# Altium schematic symbol library ADG904.SchLib: 1 symbol
Pins are listed as number, name and electrical type; pins without a type are passive.

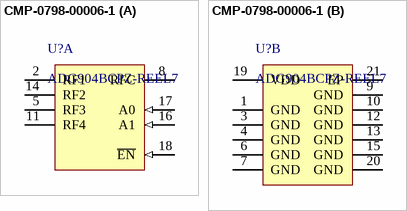
[diagram p0: symbol CMP-0798-00006-1]

## CMP-0798-00006-1
designator U?, comment ADG904BCPZ-REEL7
Wideband 2.5 GHz, 37 dB Isolation at 1 GHz, CMOS 1.65 to 2.75 V, 4:1 Mux / SP4T, -40 to 85 degC, 20-pin QFN (CP-20-1), Reel; Manufacturer: Analog Devices; t transition (s): 12n; Bandwidth (Hz): 2.5G; Supply V Guar Performance: Single_(+2.5V); ComponentLink2URL: http://www.analog.com/static/imported-files/data_sheets/ADG904_904R.pdf; DatasheetVersion: Rev. B; ComponentLink3URL: http://www.analog.com/static/imported-files/packages/PKG_PDF/LFCSP(CP)/CP_20_6.pdf; PackageDescription: 20-Pin Lead Frame Chip Scale Package, Body 4 x 4 mm, Pitch 0.5 mm; ComponentLink1URL: http://www.analog.com/en/index.html; ComponentLink3Description: Package Specification; ComponentLink2Description: Datasheet; Mounting Technology: Surface Mount; ComponentLink1Description: Manufacturer URL; Code_JEDEC: MO-220; PackageVersion: 061708-A, 07/2011; PartNumber: ADG904BCPZ-REEL7; PackageReference: CP-20-6; Packing: Reel
footprint ADI-CP-20-6_N (QFN, 20-Leads, Body 4x4mm, Pitch 0.5mm, Thermal Pad 2.15x2.15mm, IPC Medium Density)
footprint ADI-CP-20-6_M (QFN, 20-Leads, Body 4x4mm, Pitch 0.5mm, Thermal Pad 2.15x2.15mm, IPC Low Density)
footprint ADI-CP-20-6_L (QFN, 20-Leads, Body 4x4mm, Pitch 0.5mm, Thermal Pad 2.15x2.15mm, IPC High Density)
part A pins: 2 RF1 "RF1 Port.", 5 RF3 "RF3 Port.", 8 RFC "Common RF Port for Switch.", 11 RF4 "RF4 Port.", 14 RF2 "RF2 Port.", 16 A1 (in) "Logic Control Input.", 17 A0 (in) "Logic Control Input.", 18 ~{EN} (in) "Active Low Digital Input. When high, the device is disabled and all switches are off. When low, Ax logic inputs determine On switches."
part B pins: 1 GND (power) "Ground Reference Point for All Circuitry on the Part.", 3 GND (power) "Ground Reference Point for All Circuitry on the Part.", 4 GND (power) "Ground Reference Point for All Circuitry on the Part.", 6 GND (power) "Ground Reference Point for All Circuitry on the Part.", 7 GND (power) "Ground Reference Point for All Circuitry on the Part.", 9 GND (power) "Ground Reference Point for All Circuitry on the Part.", 10 GND (power) "Ground Reference Point for All Circuitry on the Part.", 12 GND (power) "Ground Reference Point for All Circuitry on the Part.", 13 GND (power) "Ground Reference Point for All Circuitry on the Part.", 15 GND (power) "Ground Reference Point for All Circuitry on the Part.", 19 VDD (power) "Power Supply Input. These parts can be operated from 1.65 V to 2.75 V. VDD should be decoupled to GND.", 20 GND (power) "Ground Reference Point for All Circuitry on the Part.", 21 EP (power) "Exposed Pad."